# EAGLE library part ENCODER (library Micromouse 2020)
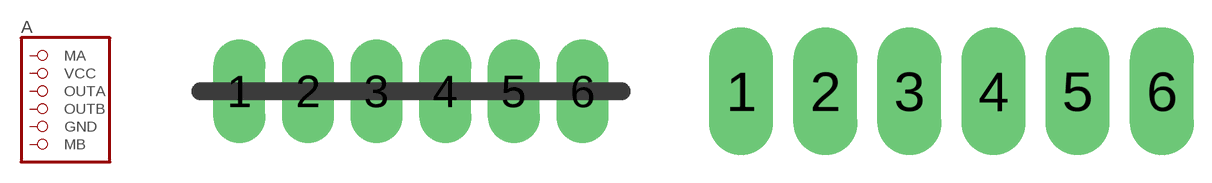
[diagram p7: symbol with the pads of ENCODER-SLOT; footprints ENCODER-SLOT, ENCODER-TAB]

Designator prefix A

## ENCODERSLOT  [ENCODER-SLOT]
1  MA  in
2  VCC  pwr
3  OUTA  out
4  OUTB  out
5  GND  pas
6  MB  in

## ENCODER  [ENCODER-TAB]
Pads as for ENCODER-SLOT

## Footprint ENCODER-SLOT (pad centres in mm)
drill 0.65 pad 1.93 long: 1 -6.35,0; 2 -3.81,0; 3 -1.27,0; 4 1.27,0; 5 3.81,0; 6 6.35,0

## Footprint ENCODER-TAB (pad centres in mm)
drill 0.65 pad 1.93 long: 1 -6.35,0; 2 -3.81,0; 3 -1.27,0; 4 1.27,0; 5 3.81,0; 6 6.35,0